# EAGLE library part MAX3373 (library zz-upenn)
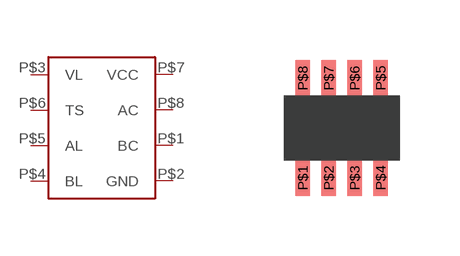
[diagram p37: symbol with the pads of SOT23-8; footprint SOT23-8]

Designator prefix -

## MAX3373  [SOT23-8]
P$1  BC
P$2  GND
P$3  VL
P$4  BL
P$5  AL
P$6  TS
P$7  VCC
P$8  AC

## Footprint SOT23-8 (pad centres in mm)
smd 0.36 x 0.9: P$1 -0.975,-1.25; P$2 -0.325,-1.25; P$3 0.325,-1.25; P$4 0.975,-1.25; P$5 0.975,1.25; P$6 0.325,1.25; P$7 -0.325,1.25; P$8 -0.975,1.25